# EAGLE library part CCFL_TRANSFO (library openGeiger)
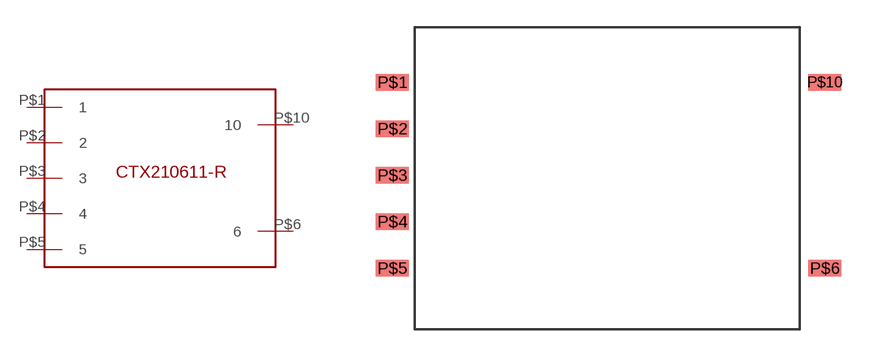
[diagram p0: symbol with the pads of CCFL_TRANSFO; footprint CCFL_TRANSFO]

Designator prefix -

## CCFL_TRANSFO  [CCFL_TRANSFO]
P$1  1
P$2  2
P$3  3
P$4  4
P$5  5
P$6  6
P$10  10

## Footprint CCFL_TRANSFO (pad centres in mm)
smd 1.778 x 0.914: P$1 -1.238,13.5; P$2 -1.238,10.96; P$3 -1.238,8.42; P$4 -1.238,5.88; P$5 -1.238,3.34; P$6 22.365,3.34; P$10 22.365,13.5